# Altium schematic symbol library Schlib1.SchLib: 3 symbols
Pins are listed as number, name and electrical type; pins without a type are passive.

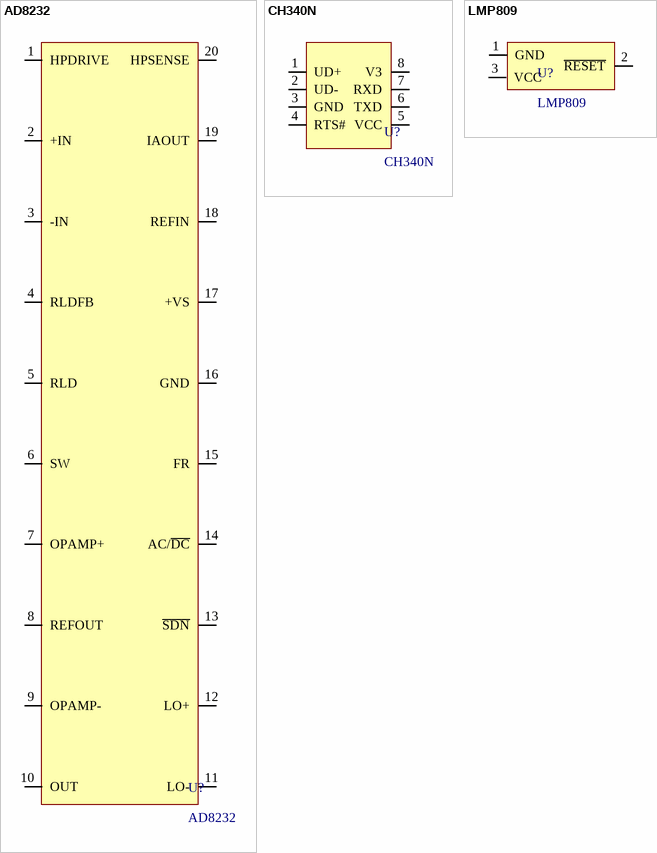
[diagram p0: symbols AD8232 to LMP809]

## AD8232
designator U?
footprint QFN-20 (Footprint not found)
pins: 1 HPDRIVE, 2 +IN, 3 -IN, 4 RLDFB, 5 RLD, 6 SW, 7 OPAMP+, 8 REFOUT, 9 OPAMP-, 10 OUT, 11 LO-, 12 LO+, 13 ~{SDN}, 14 AC/~{DC}, 15 FR, 16 GND, 17 +VS, 18 REFIN, 19 IAOUT, 20 HPSENSE

## CH340N
designator U?
footprint SOP8_M (Footprint not found)
pins: 1 UD+, 2 UD-, 3 GND, 4 RTS#, 5 VCC, 6 TXD, 7 RXD, 8 V3

## LMP809
designator U?
footprint SOT23_M (Footprint not found)
pins: 1 GND, 2 ~{RESET}, 3 VCC